# EAGLE library part AD-ADP667-REG_ (library NVSL-misc)
Analog Devices 200mA 150mV LDO Regulator
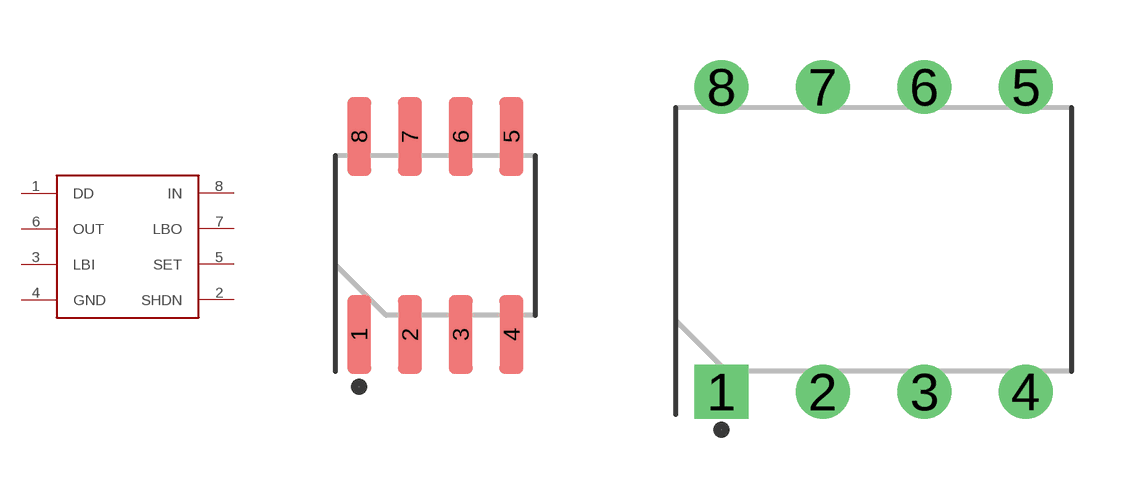
[diagram p0: symbol with the pads of SOIC127P600X175-8L86_HS; footprints SOIC127P600X175-8L86_HS, DIP762W26P254L990H368Q8_HS]

Designator prefix U

## AD-ADP667-REG_SMD-SOIC8  [SOIC127P600X175-8L86_HS]
1  DD
2  SHDN  in
3  LBI  in
4  GND  pwr
5  SET  in
6  OUT  pwr
7  LBO  out
8  IN  pwr

## AD-ADP667-REG_TH-DIP8  [DIP762W26P254L990H368Q8_HS]
1  DD
2  OUT  pwr
3  LBI  in
4  GND  pwr
5  SHDN  in
6  SET  in
7  LBO  out
8  IN  pwr

## Footprint SOIC127P600X175-8L86_HS (pad centres in mm)
Small Outline IC (SOIC), 1.27 mm pitch; 8 pin, 4.90 mm L X 3.90 mm W X 1.75 mm H body PCB Libraries Packages
smd 0.6 x 1.97: 1 -1.905,-2.475; 2 -0.635,-2.475; 3 0.635,-2.475; 4 1.905,-2.475; 5 1.905,2.475; 6 0.635,2.475; 7 -0.635,2.475; 8 -1.905,2.475

## Footprint DIP762W26P254L990H368Q8_HS (pad centres in mm)
DIP, 7.62 mm lead span, 2.54 mm pitch; 8 pin, 9.906 mm L X 6.604 mm W X 3.683 mm H body PCB Libraries Packages
drill 0.84 pad 1.26 square: 1 -3.81,-3.81
drill 0.84 pad 1.26: 2 -1.27,-3.81; 3 1.27,-3.81; 4 3.81,-3.81; 5 3.81,3.81; 6 1.27,3.81; 7 -1.27,3.81; 8 -3.81,3.81